# Altium schematic symbol library Stamp-S3Bat_SMD.SchLib: 1 symbol
Pins are listed as number, name and electrical type; pins without a type are passive.

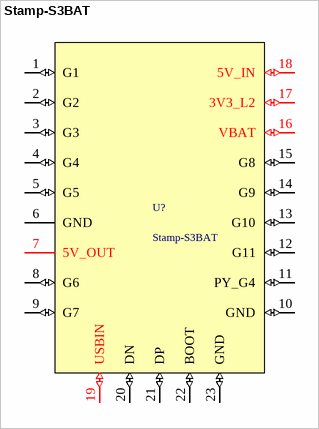
[diagram p0: symbol Stamp-S3BAT]

## Stamp-S3BAT
designator U?
footprint Stamp-S3BAT (Footprint not found)
pins: 1 G1 (io), 2 G2 (io), 3 G3 (io), 4 G4 (io), 5 G5 (io), 6 GND (power), 7 5V_OUT (power), 8 G6 (io), 9 G7 (io), 10 GND (io), 11 PY_G4 (io), 12 G11 (io), 13 G10 (io), 14 G9 (io), 15 G8 (io), 16 VBAT (io), 17 3V3_L2 (io), 18 5V_IN (io), 19 USBIN (io), 20 DN (io), 21 DP (io), 22 BOOT (io), 23 GND (io)